# Altium footprint library NFM21CC.PcbLib: 1 footprints
Each footprint in its own frame and in the unit in brackets; x right, y up, seen from the top. Pads: shape width x height; smd on the part's side, far side on the other; paste and mask are expansions set on the pad; w line width, h text height; cw(c..) or ccw(c..) is an arc to the next point about the centre after c.
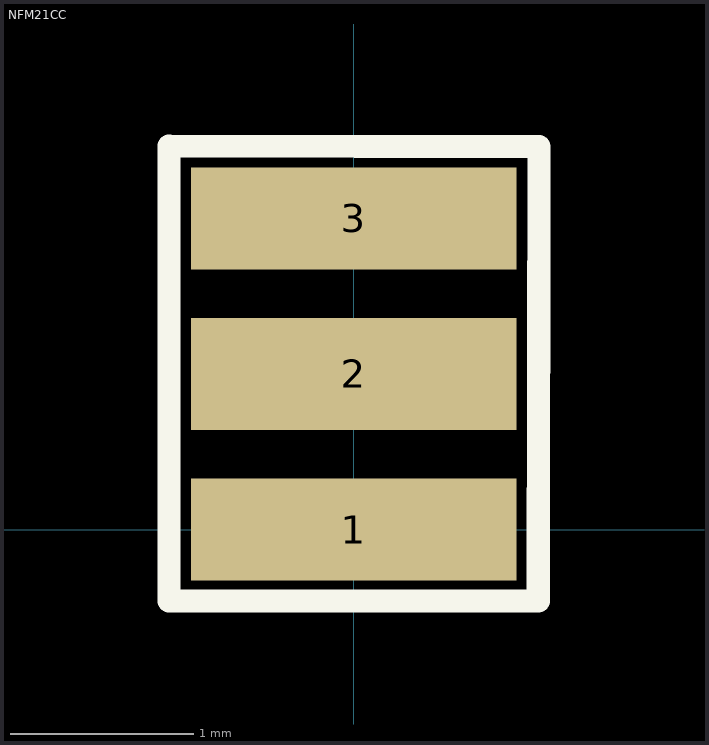
[diagram p0: the footprint, top view; thin cyan lines are the x and y axes]

## NFM21CC [mil]
pads (3):
  rect 70x22 smd: 1(0,0) 3(0,66.93)
  rect 70x24 smd: 2(0,33.46)
Top Overlay:
  lines w5: -39.75,-15.37 -39.75,82.52 39.81,82.39 39.68,-15.37 31.44,-15.37 -39.75,-15.37